# Altium footprint library Cap0402.PcbLib: 1 footprints
Each footprint in its own frame and in the unit in brackets; x right, y up, seen from the top. Pads: shape width x height; smd on the part's side, far side on the other; paste and mask are expansions set on the pad; w line width, h text height; cw(c..) or ccw(c..) is an arc to the next point about the centre after c.
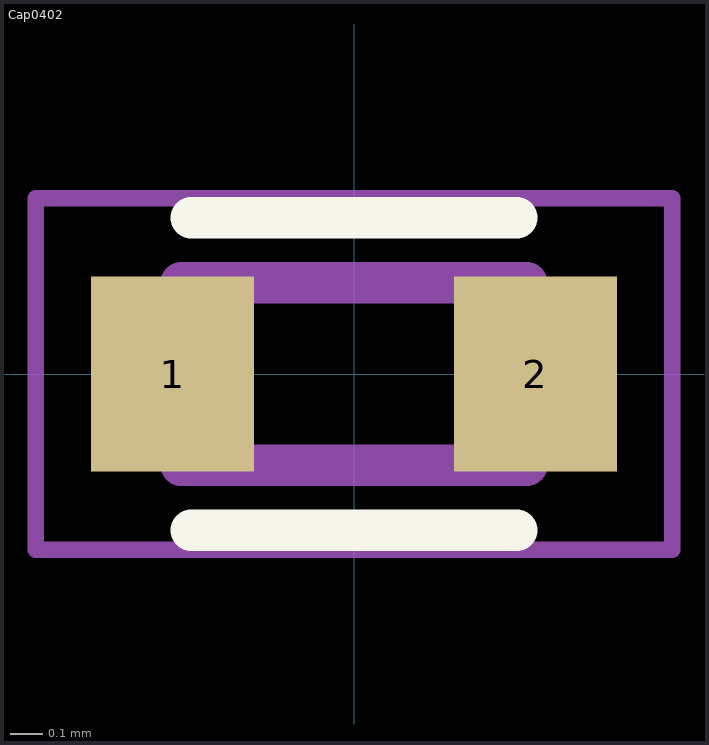
[diagram p0: the footprint, top view; thin cyan lines are the x and y axes]

## Cap0402 [mm]
pads (2):
  rect 0.5x0.6 smd: 1(-0.557,0) 2(0.557,0)
Top Overlay:
  lines w0.127: -0.5,-0.48 0.5,-0.48 ; -0.5,0.48 0.5,0.48
Mechanical 13:
  lines w0.127: -0.53,-0.28 -0.53,0.28 0.53,0.28 0.53,-0.28 -0.53,-0.28
Mechanical 15:
  lines w0.05: -0.977,-0.54 -0.977,0.54 0.977,0.54 0.977,-0.54 -0.977,-0.54
3D body "C0402C620F5GACTU.STEP": height 0.5, standoff 0, extent -0.5,-0.272 0.5,0.278